# Altium integrated library NEO-6M.IntLib: 1 symbol
Pins are listed as number, name and electrical type; pins without a type are passive.

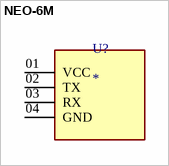
[diagram p0: symbol NEO-6M]

## NEO-6M
designator U?
NEO-6M; MF: Samtec; MP: TMS-101-51-G-D; Availability: In Stock; SnapEDA_Link: https://www.snapeda.com/parts/TMS-101-51-G-D/Samtec/view-part/?ref=snap; Price: None; Check_prices: https://www.snapeda.com/parts/TMS-101-51-G-D/Samtec/view-part/?ref=eda; Package: None; Value: *; Purchase-URL: https://pricing.snapeda.com/search/part/TMS-101-51-G-D/?ref=eda
footprint PCBComponent_1
pins: 01 VCC, 02 TX, 03 RX, 04 GND